# Altium integrated library ST Memory EPROM 16-512 Kbit.IntLib: 933 symbols (part 5 of 19)
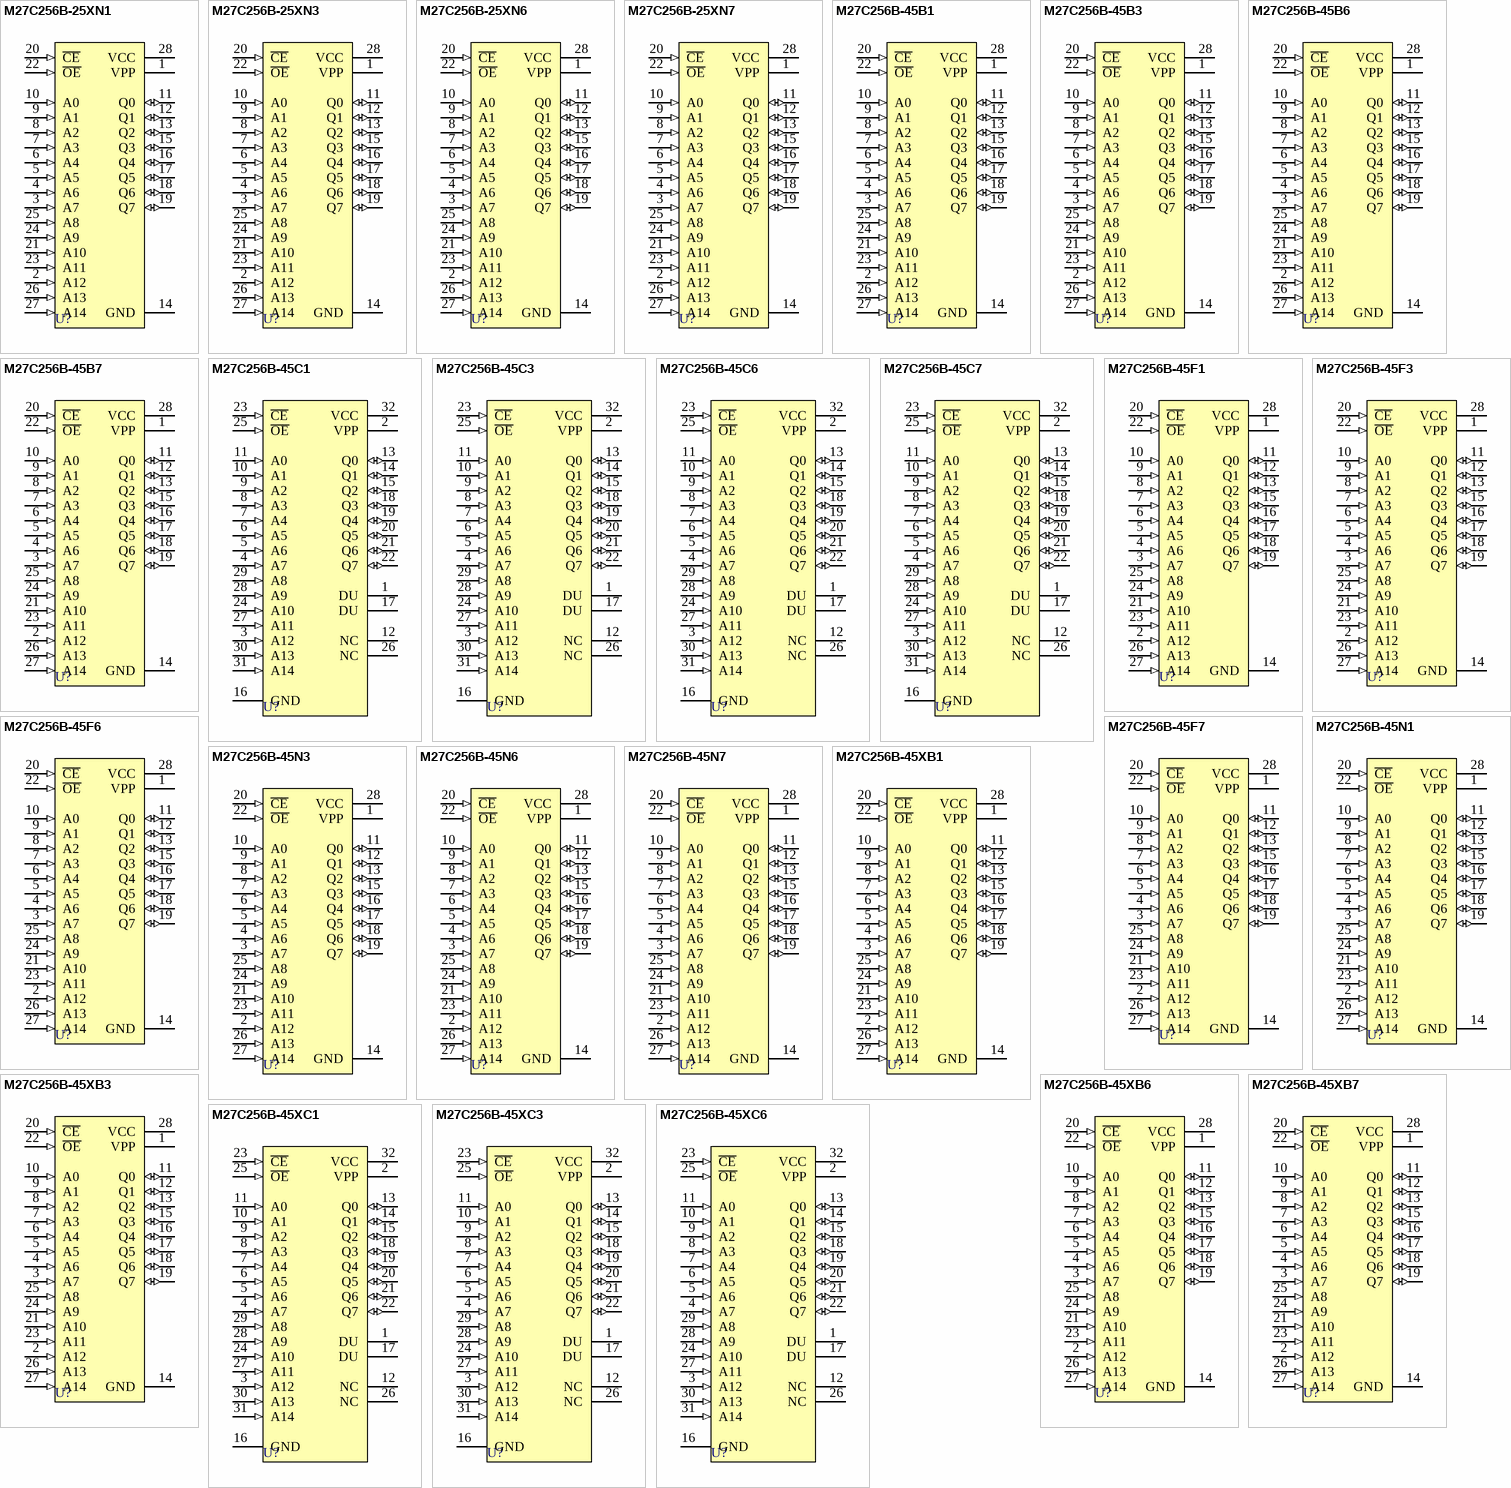
[diagram p38: symbols M27C256B-25XN1 to M27C256B-45XC6]

## M27C256B-45XC3
designator U?
256 Kbit (32Kb X 8) UV EPROM and OTP EPROM; Note: Do Not Use (DU) pin numbers 1 and 17.; Published: 24-Aug-2001; LatestRevisionDate: 6-Jun-2005; LatestRevisionNote: Stylized 3D Model Added.; DatasheetDocument: Jul-1998; PackageDocument: Jun-1998; PackageReference: PLCC32; Publisher: Altium Limited; Code_JEDEC: MS-016-AE; Code_IPC: PLCC/R-32; ComponentLink1Description: Manufacturer Link; ComponentLink1URL: http://www.st.com/; ComponentLink2Description: Datasheet; ComponentLink2URL: http://www.st.com/stonline/products/literature/ds/2384/m27c256b.pdf
footprint PLCC32 (Leaded Chip Carrier; 32 Leads; Body 11.4 x 14 mm)
3D model M27C256B-PLCC32 (Leaded Chip Carrier; 32 Leads; Body 11.4 x 14 mm)
pins: 1 DU, 2 VPP (power), 3 A12 (in), 4 A7 (in), 5 A6 (in), 6 A5 (in), 7 A4 (in), 8 A3 (in), 9 A2 (in), 10 A1 (in), 11 A0 (in), 12 NC, 13 Q0 (io), 14 Q1 (io), 15 Q2 (io), 16 GND (power), 17 DU, 18 Q3 (io), 19 Q4 (io), 20 Q5 (io), 21 Q6 (io), 22 Q7 (io), 23 ~{CE} (in), 24 A10 (in), 25 ~{OE} (in), 26 NC, 27 A11 (in), 28 A9 (in), 29 A8 (in), 30 A13 (in), 31 A14 (in), 32 VCC (power)

## M27C256B-45XC6
designator U?
256 Kbit (32Kb X 8) UV EPROM and OTP EPROM; Note: Do Not Use (DU) pin numbers 1 and 17.; Published: 24-Aug-2001; LatestRevisionDate: 6-Jun-2005; LatestRevisionNote: Stylized 3D Model Added.; DatasheetDocument: Jul-1998; PackageDocument: Jun-1998; PackageReference: PLCC32; Publisher: Altium Limited; Code_JEDEC: MS-016-AE; Code_IPC: PLCC/R-32; ComponentLink1Description: Manufacturer Link; ComponentLink1URL: http://www.st.com/; ComponentLink2Description: Datasheet; ComponentLink2URL: http://www.st.com/stonline/products/literature/ds/2384/m27c256b.pdf
footprint PLCC32 (Leaded Chip Carrier; 32 Leads; Body 11.4 x 14 mm)
3D model M27C256B-PLCC32 (Leaded Chip Carrier; 32 Leads; Body 11.4 x 14 mm)
pins: 1 DU, 2 VPP (power), 3 A12 (in), 4 A7 (in), 5 A6 (in), 6 A5 (in), 7 A4 (in), 8 A3 (in), 9 A2 (in), 10 A1 (in), 11 A0 (in), 12 NC, 13 Q0 (io), 14 Q1 (io), 15 Q2 (io), 16 GND (power), 17 DU, 18 Q3 (io), 19 Q4 (io), 20 Q5 (io), 21 Q6 (io), 22 Q7 (io), 23 ~{CE} (in), 24 A10 (in), 25 ~{OE} (in), 26 NC, 27 A11 (in), 28 A9 (in), 29 A8 (in), 30 A13 (in), 31 A14 (in), 32 VCC (power)

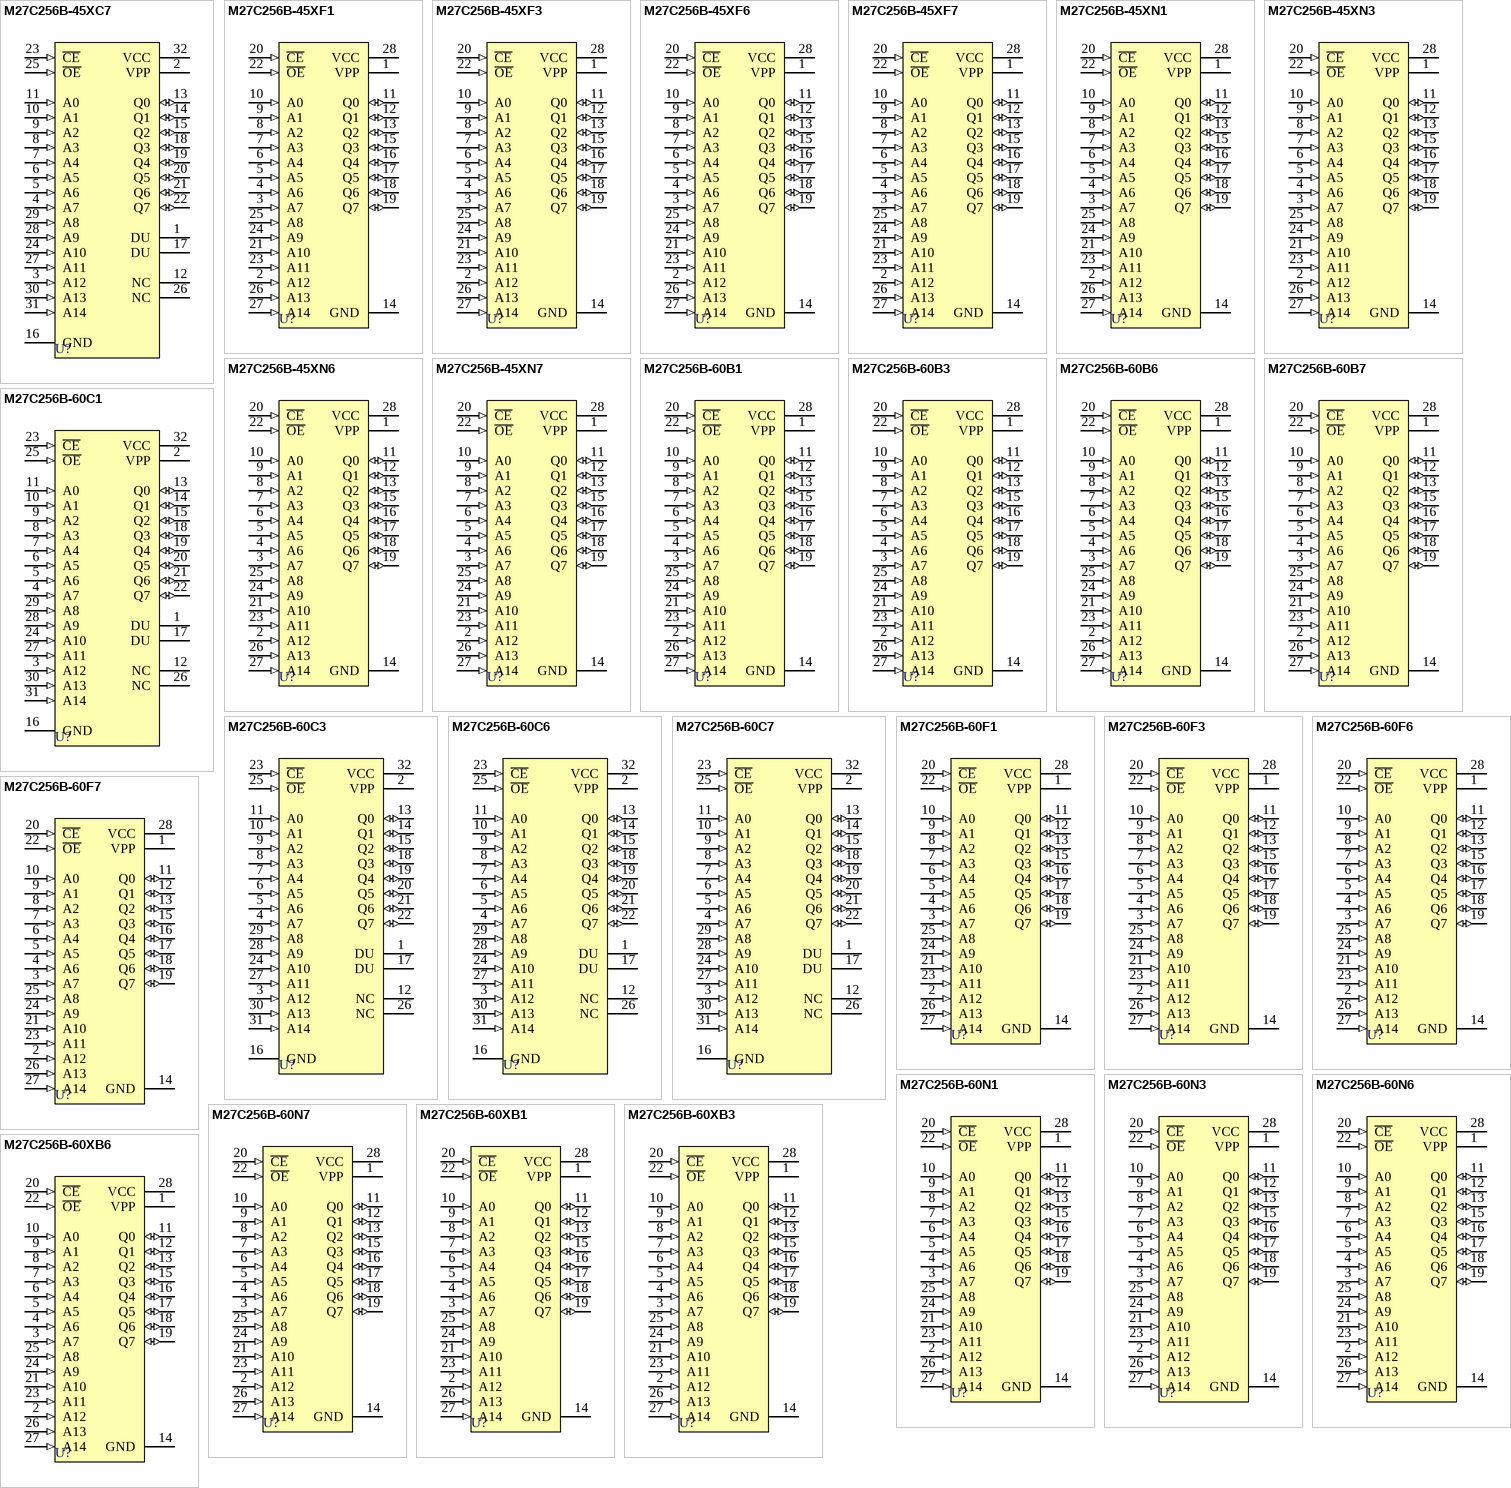
[diagram p7: symbols M27C256B-45XC7 to M27C256B-60XB6]

## M27C256B-45XC7
designator U?
256 Kbit (32Kb X 8) UV EPROM and OTP EPROM; Note: Do Not Use (DU) pin numbers 1 and 17.; Published: 24-Aug-2001; LatestRevisionDate: 6-Jun-2005; LatestRevisionNote: Stylized 3D Model Added.; DatasheetDocument: Jul-1998; PackageDocument: Jun-1998; PackageReference: PLCC32; Publisher: Altium Limited; Code_JEDEC: MS-016-AE; Code_IPC: PLCC/R-32; ComponentLink1Description: Manufacturer Link; ComponentLink1URL: http://www.st.com/; ComponentLink2Description: Datasheet; ComponentLink2URL: http://www.st.com/stonline/products/literature/ds/2384/m27c256b.pdf
footprint PLCC32 (Leaded Chip Carrier; 32 Leads; Body 11.4 x 14 mm)
3D model M27C256B-PLCC32 (Leaded Chip Carrier; 32 Leads; Body 11.4 x 14 mm)
pins: 1 DU, 2 VPP (power), 3 A12 (in), 4 A7 (in), 5 A6 (in), 6 A5 (in), 7 A4 (in), 8 A3 (in), 9 A2 (in), 10 A1 (in), 11 A0 (in), 12 NC, 13 Q0 (io), 14 Q1 (io), 15 Q2 (io), 16 GND (power), 17 DU, 18 Q3 (io), 19 Q4 (io), 20 Q5 (io), 21 Q6 (io), 22 Q7 (io), 23 ~{CE} (in), 24 A10 (in), 25 ~{OE} (in), 26 NC, 27 A11 (in), 28 A9 (in), 29 A8 (in), 30 A13 (in), 31 A14 (in), 32 VCC (power)

## M27C256B-45XF1
designator U?
256 Kbit (32Kb X 8) UV EPROM and OTP EPROM; Published: 24-Aug-2001; LatestRevisionDate: 6-Jun-2005; LatestRevisionNote: Stylized 3D Model Added.; DatasheetDocument: Jul-1998; PackageReference: FDIP28W; Publisher: Altium Limited; ComponentLink1Description: Manufacturer Link; ComponentLink1URL: http://www.st.com/; ComponentLink2Description: Datasheet; ComponentLink2URL: http://www.st.com/stonline/products/literature/ds/2384/m27c256b.pdf
footprint FDIP28W (Ceramic Frit-seal DIP, Window; 28 Leads; Row Spacing 15.24 mm; Pitch 2.54 mm)
3D model FDIP28W (Ceramic Frit-seal DIP, Window; 28 Leads; Row Spacing 15.24 mm; Pitch 2.54 mm)
pins: 1 VPP (power), 2 A12 (in), 3 A7 (in), 4 A6 (in), 5 A5 (in), 6 A4 (in), 7 A3 (in), 8 A2 (in), 9 A1 (in), 10 A0 (in), 11 Q0 (io), 12 Q1 (io), 13 Q2 (io), 14 GND (power), 15 Q3 (io), 16 Q4 (io), 17 Q5 (io), 18 Q6 (io), 19 Q7 (io), 20 ~{CE} (in), 21 A10 (in), 22 ~{OE} (in), 23 A11 (in), 24 A9 (in), 25 A8 (in), 26 A13 (in), 27 A14 (in), 28 VCC (power)

## M27C256B-45XF3
designator U?
256 Kbit (32Kb X 8) UV EPROM and OTP EPROM; Published: 24-Aug-2001; LatestRevisionDate: 6-Jun-2005; LatestRevisionNote: Stylized 3D Model Added.; DatasheetDocument: Jul-1998; PackageReference: FDIP28W; Publisher: Altium Limited; ComponentLink1Description: Manufacturer Link; ComponentLink1URL: http://www.st.com/; ComponentLink2Description: Datasheet; ComponentLink2URL: http://www.st.com/stonline/products/literature/ds/2384/m27c256b.pdf
footprint FDIP28W (Ceramic Frit-seal DIP, Window; 28 Leads; Row Spacing 15.24 mm; Pitch 2.54 mm)
3D model FDIP28W (Ceramic Frit-seal DIP, Window; 28 Leads; Row Spacing 15.24 mm; Pitch 2.54 mm)
pins: 1 VPP (power), 2 A12 (in), 3 A7 (in), 4 A6 (in), 5 A5 (in), 6 A4 (in), 7 A3 (in), 8 A2 (in), 9 A1 (in), 10 A0 (in), 11 Q0 (io), 12 Q1 (io), 13 Q2 (io), 14 GND (power), 15 Q3 (io), 16 Q4 (io), 17 Q5 (io), 18 Q6 (io), 19 Q7 (io), 20 ~{CE} (in), 21 A10 (in), 22 ~{OE} (in), 23 A11 (in), 24 A9 (in), 25 A8 (in), 26 A13 (in), 27 A14 (in), 28 VCC (power)

## M27C256B-45XF6
designator U?
256 Kbit (32Kb X 8) UV EPROM and OTP EPROM; Published: 24-Aug-2001; LatestRevisionDate: 6-Jun-2005; LatestRevisionNote: Stylized 3D Model Added.; DatasheetDocument: Jul-1998; PackageReference: FDIP28W; Publisher: Altium Limited; ComponentLink1Description: Manufacturer Link; ComponentLink1URL: http://www.st.com/; ComponentLink2Description: Datasheet; ComponentLink2URL: http://www.st.com/stonline/products/literature/ds/2384/m27c256b.pdf
footprint FDIP28W (Ceramic Frit-seal DIP, Window; 28 Leads; Row Spacing 15.24 mm; Pitch 2.54 mm)
3D model FDIP28W (Ceramic Frit-seal DIP, Window; 28 Leads; Row Spacing 15.24 mm; Pitch 2.54 mm)
pins: 1 VPP (power), 2 A12 (in), 3 A7 (in), 4 A6 (in), 5 A5 (in), 6 A4 (in), 7 A3 (in), 8 A2 (in), 9 A1 (in), 10 A0 (in), 11 Q0 (io), 12 Q1 (io), 13 Q2 (io), 14 GND (power), 15 Q3 (io), 16 Q4 (io), 17 Q5 (io), 18 Q6 (io), 19 Q7 (io), 20 ~{CE} (in), 21 A10 (in), 22 ~{OE} (in), 23 A11 (in), 24 A9 (in), 25 A8 (in), 26 A13 (in), 27 A14 (in), 28 VCC (power)

## M27C256B-45XF7
designator U?
256 Kbit (32Kb X 8) UV EPROM and OTP EPROM; Published: 24-Aug-2001; LatestRevisionDate: 6-Jun-2005; LatestRevisionNote: Stylized 3D Model Added.; DatasheetDocument: Jul-1998; PackageReference: FDIP28W; Publisher: Altium Limited; ComponentLink1Description: Manufacturer Link; ComponentLink1URL: http://www.st.com/; ComponentLink2Description: Datasheet; ComponentLink2URL: http://www.st.com/stonline/products/literature/ds/2384/m27c256b.pdf
footprint FDIP28W (Ceramic Frit-seal DIP, Window; 28 Leads; Row Spacing 15.24 mm; Pitch 2.54 mm)
3D model FDIP28W (Ceramic Frit-seal DIP, Window; 28 Leads; Row Spacing 15.24 mm; Pitch 2.54 mm)
pins: 1 VPP (power), 2 A12 (in), 3 A7 (in), 4 A6 (in), 5 A5 (in), 6 A4 (in), 7 A3 (in), 8 A2 (in), 9 A1 (in), 10 A0 (in), 11 Q0 (io), 12 Q1 (io), 13 Q2 (io), 14 GND (power), 15 Q3 (io), 16 Q4 (io), 17 Q5 (io), 18 Q6 (io), 19 Q7 (io), 20 ~{CE} (in), 21 A10 (in), 22 ~{OE} (in), 23 A11 (in), 24 A9 (in), 25 A8 (in), 26 A13 (in), 27 A14 (in), 28 VCC (power)

## M27C256B-45XN1
designator U?
256 Kbit (32Kb X 8) UV EPROM and OTP EPROM; Published: 24-Aug-2001; LatestRevisionDate: 6-Jun-2005; LatestRevisionNote: Stylized 3D Model Added.; DatasheetDocument: Jul-1998; PackageDocument: Jul-1998; PackageReference: TSOP28; Publisher: Altium Limited; ComponentLink1Description: Manufacturer Link; ComponentLink1URL: http://www.st.com/; ComponentLink2Description: Datasheet; ComponentLink2URL: http://www.st.com/stonline/products/literature/ds/2384/m27c256b.pdf
footprint TSOP28 (Shrink Small Outline; 28 Leads; Body Width 11.8 mm; Pitch 0.55 mm)
3D model TSOP28 (Shrink Small Outline; 28 Leads; Body Width 11.8 mm; Pitch 0.55 mm)
pins: 1 VPP (power), 2 A12 (in), 3 A7 (in), 4 A6 (in), 5 A5 (in), 6 A4 (in), 7 A3 (in), 8 A2 (in), 9 A1 (in), 10 A0 (in), 11 Q0 (io), 12 Q1 (io), 13 Q2 (io), 14 GND (power), 15 Q3 (io), 16 Q4 (io), 17 Q5 (io), 18 Q6 (io), 19 Q7 (io), 20 ~{CE} (in), 21 A10 (in), 22 ~{OE} (in), 23 A11 (in), 24 A9 (in), 25 A8 (in), 26 A13 (in), 27 A14 (in), 28 VCC (power)

## M27C256B-45XN3
designator U?
256 Kbit (32Kb X 8) UV EPROM and OTP EPROM; Published: 24-Aug-2001; LatestRevisionDate: 6-Jun-2005; LatestRevisionNote: Stylized 3D Model Added.; DatasheetDocument: Jul-1998; PackageDocument: Jul-1998; PackageReference: TSOP28; Publisher: Altium Limited; ComponentLink1Description: Manufacturer Link; ComponentLink1URL: http://www.st.com/; ComponentLink2Description: Datasheet; ComponentLink2URL: http://www.st.com/stonline/products/literature/ds/2384/m27c256b.pdf
footprint TSOP28 (Shrink Small Outline; 28 Leads; Body Width 11.8 mm; Pitch 0.55 mm)
3D model TSOP28 (Shrink Small Outline; 28 Leads; Body Width 11.8 mm; Pitch 0.55 mm)
pins: 1 VPP (power), 2 A12 (in), 3 A7 (in), 4 A6 (in), 5 A5 (in), 6 A4 (in), 7 A3 (in), 8 A2 (in), 9 A1 (in), 10 A0 (in), 11 Q0 (io), 12 Q1 (io), 13 Q2 (io), 14 GND (power), 15 Q3 (io), 16 Q4 (io), 17 Q5 (io), 18 Q6 (io), 19 Q7 (io), 20 ~{CE} (in), 21 A10 (in), 22 ~{OE} (in), 23 A11 (in), 24 A9 (in), 25 A8 (in), 26 A13 (in), 27 A14 (in), 28 VCC (power)

## M27C256B-45XN6
designator U?
256 Kbit (32Kb X 8) UV EPROM and OTP EPROM; Published: 24-Aug-2001; LatestRevisionDate: 6-Jun-2005; LatestRevisionNote: Stylized 3D Model Added.; DatasheetDocument: Jul-1998; PackageDocument: Jul-1998; PackageReference: TSOP28; Publisher: Altium Limited; ComponentLink1Description: Manufacturer Link; ComponentLink1URL: http://www.st.com/; ComponentLink2Description: Datasheet; ComponentLink2URL: http://www.st.com/stonline/products/literature/ds/2384/m27c256b.pdf
footprint TSOP28 (Shrink Small Outline; 28 Leads; Body Width 11.8 mm; Pitch 0.55 mm)
3D model TSOP28 (Shrink Small Outline; 28 Leads; Body Width 11.8 mm; Pitch 0.55 mm)
pins: 1 VPP (power), 2 A12 (in), 3 A7 (in), 4 A6 (in), 5 A5 (in), 6 A4 (in), 7 A3 (in), 8 A2 (in), 9 A1 (in), 10 A0 (in), 11 Q0 (io), 12 Q1 (io), 13 Q2 (io), 14 GND (power), 15 Q3 (io), 16 Q4 (io), 17 Q5 (io), 18 Q6 (io), 19 Q7 (io), 20 ~{CE} (in), 21 A10 (in), 22 ~{OE} (in), 23 A11 (in), 24 A9 (in), 25 A8 (in), 26 A13 (in), 27 A14 (in), 28 VCC (power)

## M27C256B-45XN7
designator U?
256 Kbit (32Kb X 8) UV EPROM and OTP EPROM; Published: 24-Aug-2001; LatestRevisionDate: 6-Jun-2005; LatestRevisionNote: Stylized 3D Model Added.; DatasheetDocument: Jul-1998; PackageDocument: Jul-1998; PackageReference: TSOP28; Publisher: Altium Limited; ComponentLink1Description: Manufacturer Link; ComponentLink1URL: http://www.st.com/; ComponentLink2Description: Datasheet; ComponentLink2URL: http://www.st.com/stonline/products/literature/ds/2384/m27c256b.pdf
footprint TSOP28 (Shrink Small Outline; 28 Leads; Body Width 11.8 mm; Pitch 0.55 mm)
3D model TSOP28 (Shrink Small Outline; 28 Leads; Body Width 11.8 mm; Pitch 0.55 mm)
pins: 1 VPP (power), 2 A12 (in), 3 A7 (in), 4 A6 (in), 5 A5 (in), 6 A4 (in), 7 A3 (in), 8 A2 (in), 9 A1 (in), 10 A0 (in), 11 Q0 (io), 12 Q1 (io), 13 Q2 (io), 14 GND (power), 15 Q3 (io), 16 Q4 (io), 17 Q5 (io), 18 Q6 (io), 19 Q7 (io), 20 ~{CE} (in), 21 A10 (in), 22 ~{OE} (in), 23 A11 (in), 24 A9 (in), 25 A8 (in), 26 A13 (in), 27 A14 (in), 28 VCC (power)

## M27C256B-60B1
designator U?
256 Kbit (32Kb X 8) UV EPROM and OTP EPROM; Published: 24-Aug-2001; LatestRevisionDate: 6-Jun-2005; LatestRevisionNote: Stylized 3D Model Added.; DatasheetDocument: Jul-1998; PackageDocument: Jan-2003; PackageReference: PDIP28; Publisher: Altium Limited; ComponentLink1Description: Manufacturer Link; ComponentLink1URL: http://www.st.com/; ComponentLink2Description: Datasheet; ComponentLink2URL: http://www.st.com/stonline/products/literature/ds/2384/m27c256b.pdf
footprint PDIP28 (DIP; 28 Leads; Row Spacing 15.24 mm; Pitch 2.54 mm)
3D model FDIP28W (DIP; 28 Leads; Row Spacing 15.24 mm; Pitch 2.54 mm)
pins: 1 VPP (power), 2 A12 (in), 3 A7 (in), 4 A6 (in), 5 A5 (in), 6 A4 (in), 7 A3 (in), 8 A2 (in), 9 A1 (in), 10 A0 (in), 11 Q0 (io), 12 Q1 (io), 13 Q2 (io), 14 GND (power), 15 Q3 (io), 16 Q4 (io), 17 Q5 (io), 18 Q6 (io), 19 Q7 (io), 20 ~{CE} (in), 21 A10 (in), 22 ~{OE} (in), 23 A11 (in), 24 A9 (in), 25 A8 (in), 26 A13 (in), 27 A14 (in), 28 VCC (power)

## M27C256B-60B3
designator U?
256 Kbit (32Kb X 8) UV EPROM and OTP EPROM; Published: 24-Aug-2001; LatestRevisionDate: 6-Jun-2005; LatestRevisionNote: Stylized 3D Model Added.; DatasheetDocument: Jul-1998; PackageDocument: Jan-2003; PackageReference: PDIP28; Publisher: Altium Limited; ComponentLink1Description: Manufacturer Link; ComponentLink1URL: http://www.st.com/; ComponentLink2Description: Datasheet; ComponentLink2URL: http://www.st.com/stonline/products/literature/ds/2384/m27c256b.pdf
footprint PDIP28 (DIP; 28 Leads; Row Spacing 15.24 mm; Pitch 2.54 mm)
3D model FDIP28W (DIP; 28 Leads; Row Spacing 15.24 mm; Pitch 2.54 mm)
pins: 1 VPP (power), 2 A12 (in), 3 A7 (in), 4 A6 (in), 5 A5 (in), 6 A4 (in), 7 A3 (in), 8 A2 (in), 9 A1 (in), 10 A0 (in), 11 Q0 (io), 12 Q1 (io), 13 Q2 (io), 14 GND (power), 15 Q3 (io), 16 Q4 (io), 17 Q5 (io), 18 Q6 (io), 19 Q7 (io), 20 ~{CE} (in), 21 A10 (in), 22 ~{OE} (in), 23 A11 (in), 24 A9 (in), 25 A8 (in), 26 A13 (in), 27 A14 (in), 28 VCC (power)

## M27C256B-60B6
designator U?
256 Kbit (32Kb X 8) UV EPROM and OTP EPROM; Published: 24-Aug-2001; LatestRevisionDate: 6-Jun-2005; LatestRevisionNote: Stylized 3D Model Added.; DatasheetDocument: Jul-1998; PackageDocument: Jan-2003; PackageReference: PDIP28; Publisher: Altium Limited; ComponentLink1Description: Manufacturer Link; ComponentLink1URL: http://www.st.com/; ComponentLink2Description: Datasheet; ComponentLink2URL: http://www.st.com/stonline/products/literature/ds/2384/m27c256b.pdf
footprint PDIP28 (DIP; 28 Leads; Row Spacing 15.24 mm; Pitch 2.54 mm)
3D model FDIP28W (DIP; 28 Leads; Row Spacing 15.24 mm; Pitch 2.54 mm)
pins: 1 VPP (power), 2 A12 (in), 3 A7 (in), 4 A6 (in), 5 A5 (in), 6 A4 (in), 7 A3 (in), 8 A2 (in), 9 A1 (in), 10 A0 (in), 11 Q0 (io), 12 Q1 (io), 13 Q2 (io), 14 GND (power), 15 Q3 (io), 16 Q4 (io), 17 Q5 (io), 18 Q6 (io), 19 Q7 (io), 20 ~{CE} (in), 21 A10 (in), 22 ~{OE} (in), 23 A11 (in), 24 A9 (in), 25 A8 (in), 26 A13 (in), 27 A14 (in), 28 VCC (power)

## M27C256B-60B7
designator U?
256 Kbit (32Kb X 8) UV EPROM and OTP EPROM; Published: 24-Aug-2001; LatestRevisionDate: 6-Jun-2005; LatestRevisionNote: Stylized 3D Model Added.; DatasheetDocument: Jul-1998; PackageDocument: Jan-2003; PackageReference: PDIP28; Publisher: Altium Limited; ComponentLink1Description: Manufacturer Link; ComponentLink1URL: http://www.st.com/; ComponentLink2Description: Datasheet; ComponentLink2URL: http://www.st.com/stonline/products/literature/ds/2384/m27c256b.pdf
footprint PDIP28 (DIP; 28 Leads; Row Spacing 15.24 mm; Pitch 2.54 mm)
3D model FDIP28W (DIP; 28 Leads; Row Spacing 15.24 mm; Pitch 2.54 mm)
pins: 1 VPP (power), 2 A12 (in), 3 A7 (in), 4 A6 (in), 5 A5 (in), 6 A4 (in), 7 A3 (in), 8 A2 (in), 9 A1 (in), 10 A0 (in), 11 Q0 (io), 12 Q1 (io), 13 Q2 (io), 14 GND (power), 15 Q3 (io), 16 Q4 (io), 17 Q5 (io), 18 Q6 (io), 19 Q7 (io), 20 ~{CE} (in), 21 A10 (in), 22 ~{OE} (in), 23 A11 (in), 24 A9 (in), 25 A8 (in), 26 A13 (in), 27 A14 (in), 28 VCC (power)

## M27C256B-60C1
designator U?
256 Kbit (32Kb X 8) UV EPROM and OTP EPROM; Note: Do Not Use (DU) pin numbers 1 and 17.; Published: 24-Aug-2001; LatestRevisionDate: 6-Jun-2005; LatestRevisionNote: Stylized 3D Model Added.; DatasheetDocument: Jul-1998; PackageDocument: Jun-1998; PackageReference: PLCC32; Publisher: Altium Limited; Code_JEDEC: MS-016-AE; Code_IPC: PLCC/R-32; ComponentLink1Description: Manufacturer Link; ComponentLink1URL: http://www.st.com/; ComponentLink2Description: Datasheet; ComponentLink2URL: http://www.st.com/stonline/products/literature/ds/2384/m27c256b.pdf
footprint PLCC32 (Leaded Chip Carrier; 32 Leads; Body 11.4 x 14 mm)
3D model M27C256B-PLCC32 (Leaded Chip Carrier; 32 Leads; Body 11.4 x 14 mm)
pins: 1 DU, 2 VPP (power), 3 A12 (in), 4 A7 (in), 5 A6 (in), 6 A5 (in), 7 A4 (in), 8 A3 (in), 9 A2 (in), 10 A1 (in), 11 A0 (in), 12 NC, 13 Q0 (io), 14 Q1 (io), 15 Q2 (io), 16 GND (power), 17 DU, 18 Q3 (io), 19 Q4 (io), 20 Q5 (io), 21 Q6 (io), 22 Q7 (io), 23 ~{CE} (in), 24 A10 (in), 25 ~{OE} (in), 26 NC, 27 A11 (in), 28 A9 (in), 29 A8 (in), 30 A13 (in), 31 A14 (in), 32 VCC (power)

## M27C256B-60C3
designator U?
256 Kbit (32Kb X 8) UV EPROM and OTP EPROM; Note: Do Not Use (DU) pin numbers 1 and 17.; Published: 24-Aug-2001; LatestRevisionDate: 6-Jun-2005; LatestRevisionNote: Stylized 3D Model Added.; DatasheetDocument: Jul-1998; PackageDocument: Jun-1998; PackageReference: PLCC32; Publisher: Altium Limited; Code_JEDEC: MS-016-AE; Code_IPC: PLCC/R-32; ComponentLink1Description: Manufacturer Link; ComponentLink1URL: http://www.st.com/; ComponentLink2Description: Datasheet; ComponentLink2URL: http://www.st.com/stonline/products/literature/ds/2384/m27c256b.pdf
footprint PLCC32 (Leaded Chip Carrier; 32 Leads; Body 11.4 x 14 mm)
3D model M27C256B-PLCC32 (Leaded Chip Carrier; 32 Leads; Body 11.4 x 14 mm)
pins: 1 DU, 2 VPP (power), 3 A12 (in), 4 A7 (in), 5 A6 (in), 6 A5 (in), 7 A4 (in), 8 A3 (in), 9 A2 (in), 10 A1 (in), 11 A0 (in), 12 NC, 13 Q0 (io), 14 Q1 (io), 15 Q2 (io), 16 GND (power), 17 DU, 18 Q3 (io), 19 Q4 (io), 20 Q5 (io), 21 Q6 (io), 22 Q7 (io), 23 ~{CE} (in), 24 A10 (in), 25 ~{OE} (in), 26 NC, 27 A11 (in), 28 A9 (in), 29 A8 (in), 30 A13 (in), 31 A14 (in), 32 VCC (power)

## M27C256B-60C6
designator U?
256 Kbit (32Kb X 8) UV EPROM and OTP EPROM; Note: Do Not Use (DU) pin numbers 1 and 17.; Published: 24-Aug-2001; LatestRevisionDate: 6-Jun-2005; LatestRevisionNote: Stylized 3D Model Added.; DatasheetDocument: Jul-1998; PackageDocument: Jun-1998; PackageReference: PLCC32; Publisher: Altium Limited; Code_JEDEC: MS-016-AE; Code_IPC: PLCC/R-32; ComponentLink1Description: Manufacturer Link; ComponentLink1URL: http://www.st.com/; ComponentLink2Description: Datasheet; ComponentLink2URL: http://www.st.com/stonline/products/literature/ds/2384/m27c256b.pdf
footprint PLCC32 (Leaded Chip Carrier; 32 Leads; Body 11.4 x 14 mm)
3D model M27C256B-PLCC32 (Leaded Chip Carrier; 32 Leads; Body 11.4 x 14 mm)
pins: 1 DU, 2 VPP (power), 3 A12 (in), 4 A7 (in), 5 A6 (in), 6 A5 (in), 7 A4 (in), 8 A3 (in), 9 A2 (in), 10 A1 (in), 11 A0 (in), 12 NC, 13 Q0 (io), 14 Q1 (io), 15 Q2 (io), 16 GND (power), 17 DU, 18 Q3 (io), 19 Q4 (io), 20 Q5 (io), 21 Q6 (io), 22 Q7 (io), 23 ~{CE} (in), 24 A10 (in), 25 ~{OE} (in), 26 NC, 27 A11 (in), 28 A9 (in), 29 A8 (in), 30 A13 (in), 31 A14 (in), 32 VCC (power)

## M27C256B-60C7
designator U?
256 Kbit (32Kb X 8) UV EPROM and OTP EPROM; Note: Do Not Use (DU) pin numbers 1 and 17.; Published: 24-Aug-2001; LatestRevisionDate: 6-Jun-2005; LatestRevisionNote: Stylized 3D Model Added.; DatasheetDocument: Jul-1998; PackageDocument: Jun-1998; PackageReference: PLCC32; Publisher: Altium Limited; Code_JEDEC: MS-016-AE; Code_IPC: PLCC/R-32; ComponentLink1Description: Manufacturer Link; ComponentLink1URL: http://www.st.com/; ComponentLink2Description: Datasheet; ComponentLink2URL: http://www.st.com/stonline/products/literature/ds/2384/m27c256b.pdf
footprint PLCC32 (Leaded Chip Carrier; 32 Leads; Body 11.4 x 14 mm)
3D model M27C256B-PLCC32 (Leaded Chip Carrier; 32 Leads; Body 11.4 x 14 mm)
pins: 1 DU, 2 VPP (power), 3 A12 (in), 4 A7 (in), 5 A6 (in), 6 A5 (in), 7 A4 (in), 8 A3 (in), 9 A2 (in), 10 A1 (in), 11 A0 (in), 12 NC, 13 Q0 (io), 14 Q1 (io), 15 Q2 (io), 16 GND (power), 17 DU, 18 Q3 (io), 19 Q4 (io), 20 Q5 (io), 21 Q6 (io), 22 Q7 (io), 23 ~{CE} (in), 24 A10 (in), 25 ~{OE} (in), 26 NC, 27 A11 (in), 28 A9 (in), 29 A8 (in), 30 A13 (in), 31 A14 (in), 32 VCC (power)

## M27C256B-60F1
designator U?
256 Kbit (32Kb X 8) UV EPROM and OTP EPROM; Published: 24-Aug-2001; LatestRevisionDate: 6-Jun-2005; LatestRevisionNote: Stylized 3D Model Added.; DatasheetDocument: Jul-1998; PackageReference: FDIP28W; Publisher: Altium Limited; ComponentLink1Description: Manufacturer Link; ComponentLink1URL: http://www.st.com/; ComponentLink2Description: Datasheet; ComponentLink2URL: http://www.st.com/stonline/products/literature/ds/2384/m27c256b.pdf
footprint FDIP28W (Ceramic Frit-seal DIP, Window; 28 Leads; Row Spacing 15.24 mm; Pitch 2.54 mm)
3D model FDIP28W (Ceramic Frit-seal DIP, Window; 28 Leads; Row Spacing 15.24 mm; Pitch 2.54 mm)
pins: 1 VPP (power), 2 A12 (in), 3 A7 (in), 4 A6 (in), 5 A5 (in), 6 A4 (in), 7 A3 (in), 8 A2 (in), 9 A1 (in), 10 A0 (in), 11 Q0 (io), 12 Q1 (io), 13 Q2 (io), 14 GND (power), 15 Q3 (io), 16 Q4 (io), 17 Q5 (io), 18 Q6 (io), 19 Q7 (io), 20 ~{CE} (in), 21 A10 (in), 22 ~{OE} (in), 23 A11 (in), 24 A9 (in), 25 A8 (in), 26 A13 (in), 27 A14 (in), 28 VCC (power)

## M27C256B-60F3
designator U?
256 Kbit (32Kb X 8) UV EPROM and OTP EPROM; Published: 24-Aug-2001; LatestRevisionDate: 6-Jun-2005; LatestRevisionNote: Stylized 3D Model Added.; DatasheetDocument: Jul-1998; PackageReference: FDIP28W; Publisher: Altium Limited; ComponentLink1Description: Manufacturer Link; ComponentLink1URL: http://www.st.com/; ComponentLink2Description: Datasheet; ComponentLink2URL: http://www.st.com/stonline/products/literature/ds/2384/m27c256b.pdf
footprint FDIP28W (Ceramic Frit-seal DIP, Window; 28 Leads; Row Spacing 15.24 mm; Pitch 2.54 mm)
3D model FDIP28W (Ceramic Frit-seal DIP, Window; 28 Leads; Row Spacing 15.24 mm; Pitch 2.54 mm)
pins: 1 VPP (power), 2 A12 (in), 3 A7 (in), 4 A6 (in), 5 A5 (in), 6 A4 (in), 7 A3 (in), 8 A2 (in), 9 A1 (in), 10 A0 (in), 11 Q0 (io), 12 Q1 (io), 13 Q2 (io), 14 GND (power), 15 Q3 (io), 16 Q4 (io), 17 Q5 (io), 18 Q6 (io), 19 Q7 (io), 20 ~{CE} (in), 21 A10 (in), 22 ~{OE} (in), 23 A11 (in), 24 A9 (in), 25 A8 (in), 26 A13 (in), 27 A14 (in), 28 VCC (power)

## M27C256B-60F6
designator U?
256 Kbit (32Kb X 8) UV EPROM and OTP EPROM; Published: 24-Aug-2001; LatestRevisionDate: 6-Jun-2005; LatestRevisionNote: Stylized 3D Model Added.; DatasheetDocument: Jul-1998; PackageReference: FDIP28W; Publisher: Altium Limited; ComponentLink1Description: Manufacturer Link; ComponentLink1URL: http://www.st.com/; ComponentLink2Description: Datasheet; ComponentLink2URL: http://www.st.com/stonline/products/literature/ds/2384/m27c256b.pdf
footprint FDIP28W (Ceramic Frit-seal DIP, Window; 28 Leads; Row Spacing 15.24 mm; Pitch 2.54 mm)
3D model FDIP28W (Ceramic Frit-seal DIP, Window; 28 Leads; Row Spacing 15.24 mm; Pitch 2.54 mm)
pins: 1 VPP (power), 2 A12 (in), 3 A7 (in), 4 A6 (in), 5 A5 (in), 6 A4 (in), 7 A3 (in), 8 A2 (in), 9 A1 (in), 10 A0 (in), 11 Q0 (io), 12 Q1 (io), 13 Q2 (io), 14 GND (power), 15 Q3 (io), 16 Q4 (io), 17 Q5 (io), 18 Q6 (io), 19 Q7 (io), 20 ~{CE} (in), 21 A10 (in), 22 ~{OE} (in), 23 A11 (in), 24 A9 (in), 25 A8 (in), 26 A13 (in), 27 A14 (in), 28 VCC (power)

## M27C256B-60F7
designator U?
256 Kbit (32Kb X 8) UV EPROM and OTP EPROM; Published: 24-Aug-2001; LatestRevisionDate: 6-Jun-2005; LatestRevisionNote: Stylized 3D Model Added.; DatasheetDocument: Jul-1998; PackageReference: FDIP28W; Publisher: Altium Limited; ComponentLink1Description: Manufacturer Link; ComponentLink1URL: http://www.st.com/; ComponentLink2Description: Datasheet; ComponentLink2URL: http://www.st.com/stonline/products/literature/ds/2384/m27c256b.pdf
footprint FDIP28W (Ceramic Frit-seal DIP, Window; 28 Leads; Row Spacing 15.24 mm; Pitch 2.54 mm)
3D model FDIP28W (Ceramic Frit-seal DIP, Window; 28 Leads; Row Spacing 15.24 mm; Pitch 2.54 mm)
pins: 1 VPP (power), 2 A12 (in), 3 A7 (in), 4 A6 (in), 5 A5 (in), 6 A4 (in), 7 A3 (in), 8 A2 (in), 9 A1 (in), 10 A0 (in), 11 Q0 (io), 12 Q1 (io), 13 Q2 (io), 14 GND (power), 15 Q3 (io), 16 Q4 (io), 17 Q5 (io), 18 Q6 (io), 19 Q7 (io), 20 ~{CE} (in), 21 A10 (in), 22 ~{OE} (in), 23 A11 (in), 24 A9 (in), 25 A8 (in), 26 A13 (in), 27 A14 (in), 28 VCC (power)

## M27C256B-60N1
designator U?
256 Kbit (32Kb X 8) UV EPROM and OTP EPROM; Published: 24-Aug-2001; LatestRevisionDate: 6-Jun-2005; LatestRevisionNote: Stylized 3D Model Added.; DatasheetDocument: Jul-1998; PackageDocument: Jul-1998; PackageReference: TSOP28; Publisher: Altium Limited; ComponentLink1Description: Manufacturer Link; ComponentLink1URL: http://www.st.com/; ComponentLink2Description: Datasheet; ComponentLink2URL: http://www.st.com/stonline/products/literature/ds/2384/m27c256b.pdf
footprint TSOP28 (Shrink Small Outline; 28 Leads; Body Width 11.8 mm; Pitch 0.55 mm)
3D model TSOP28 (Shrink Small Outline; 28 Leads; Body Width 11.8 mm; Pitch 0.55 mm)
pins: 1 VPP (power), 2 A12 (in), 3 A7 (in), 4 A6 (in), 5 A5 (in), 6 A4 (in), 7 A3 (in), 8 A2 (in), 9 A1 (in), 10 A0 (in), 11 Q0 (io), 12 Q1 (io), 13 Q2 (io), 14 GND (power), 15 Q3 (io), 16 Q4 (io), 17 Q5 (io), 18 Q6 (io), 19 Q7 (io), 20 ~{CE} (in), 21 A10 (in), 22 ~{OE} (in), 23 A11 (in), 24 A9 (in), 25 A8 (in), 26 A13 (in), 27 A14 (in), 28 VCC (power)

## M27C256B-60N3
designator U?
256 Kbit (32Kb X 8) UV EPROM and OTP EPROM; Published: 24-Aug-2001; LatestRevisionDate: 6-Jun-2005; LatestRevisionNote: Stylized 3D Model Added.; DatasheetDocument: Jul-1998; PackageDocument: Jul-1998; PackageReference: TSOP28; Publisher: Altium Limited; ComponentLink1Description: Manufacturer Link; ComponentLink1URL: http://www.st.com/; ComponentLink2Description: Datasheet; ComponentLink2URL: http://www.st.com/stonline/products/literature/ds/2384/m27c256b.pdf
footprint TSOP28 (Shrink Small Outline; 28 Leads; Body Width 11.8 mm; Pitch 0.55 mm)
3D model TSOP28 (Shrink Small Outline; 28 Leads; Body Width 11.8 mm; Pitch 0.55 mm)
pins: 1 VPP (power), 2 A12 (in), 3 A7 (in), 4 A6 (in), 5 A5 (in), 6 A4 (in), 7 A3 (in), 8 A2 (in), 9 A1 (in), 10 A0 (in), 11 Q0 (io), 12 Q1 (io), 13 Q2 (io), 14 GND (power), 15 Q3 (io), 16 Q4 (io), 17 Q5 (io), 18 Q6 (io), 19 Q7 (io), 20 ~{CE} (in), 21 A10 (in), 22 ~{OE} (in), 23 A11 (in), 24 A9 (in), 25 A8 (in), 26 A13 (in), 27 A14 (in), 28 VCC (power)

## M27C256B-60N6
designator U?
256 Kbit (32Kb X 8) UV EPROM and OTP EPROM; Published: 24-Aug-2001; LatestRevisionDate: 6-Jun-2005; LatestRevisionNote: Stylized 3D Model Added.; DatasheetDocument: Jul-1998; PackageDocument: Jul-1998; PackageReference: TSOP28; Publisher: Altium Limited; ComponentLink1Description: Manufacturer Link; ComponentLink1URL: http://www.st.com/; ComponentLink2Description: Datasheet; ComponentLink2URL: http://www.st.com/stonline/products/literature/ds/2384/m27c256b.pdf
footprint TSOP28 (Shrink Small Outline; 28 Leads; Body Width 11.8 mm; Pitch 0.55 mm)
3D model TSOP28 (Shrink Small Outline; 28 Leads; Body Width 11.8 mm; Pitch 0.55 mm)
pins: 1 VPP (power), 2 A12 (in), 3 A7 (in), 4 A6 (in), 5 A5 (in), 6 A4 (in), 7 A3 (in), 8 A2 (in), 9 A1 (in), 10 A0 (in), 11 Q0 (io), 12 Q1 (io), 13 Q2 (io), 14 GND (power), 15 Q3 (io), 16 Q4 (io), 17 Q5 (io), 18 Q6 (io), 19 Q7 (io), 20 ~{CE} (in), 21 A10 (in), 22 ~{OE} (in), 23 A11 (in), 24 A9 (in), 25 A8 (in), 26 A13 (in), 27 A14 (in), 28 VCC (power)

## M27C256B-60N7
designator U?
256 Kbit (32Kb X 8) UV EPROM and OTP EPROM; Published: 24-Aug-2001; LatestRevisionDate: 6-Jun-2005; LatestRevisionNote: Stylized 3D Model Added.; DatasheetDocument: Jul-1998; PackageDocument: Jul-1998; PackageReference: TSOP28; Publisher: Altium Limited; ComponentLink1Description: Manufacturer Link; ComponentLink1URL: http://www.st.com/; ComponentLink2Description: Datasheet; ComponentLink2URL: http://www.st.com/stonline/products/literature/ds/2384/m27c256b.pdf
footprint TSOP28 (Shrink Small Outline; 28 Leads; Body Width 11.8 mm; Pitch 0.55 mm)
3D model TSOP28 (Shrink Small Outline; 28 Leads; Body Width 11.8 mm; Pitch 0.55 mm)
pins: 1 VPP (power), 2 A12 (in), 3 A7 (in), 4 A6 (in), 5 A5 (in), 6 A4 (in), 7 A3 (in), 8 A2 (in), 9 A1 (in), 10 A0 (in), 11 Q0 (io), 12 Q1 (io), 13 Q2 (io), 14 GND (power), 15 Q3 (io), 16 Q4 (io), 17 Q5 (io), 18 Q6 (io), 19 Q7 (io), 20 ~{CE} (in), 21 A10 (in), 22 ~{OE} (in), 23 A11 (in), 24 A9 (in), 25 A8 (in), 26 A13 (in), 27 A14 (in), 28 VCC (power)

## M27C256B-60XB1
designator U?
256 Kbit (32Kb X 8) UV EPROM and OTP EPROM; Published: 24-Aug-2001; LatestRevisionDate: 6-Jun-2005; LatestRevisionNote: Stylized 3D Model Added.; DatasheetDocument: Jul-1998; PackageDocument: Jan-2003; PackageReference: PDIP28; Publisher: Altium Limited; ComponentLink1Description: Manufacturer Link; ComponentLink1URL: http://www.st.com/; ComponentLink2Description: Datasheet; ComponentLink2URL: http://www.st.com/stonline/products/literature/ds/2384/m27c256b.pdf
footprint PDIP28 (DIP; 28 Leads; Row Spacing 15.24 mm; Pitch 2.54 mm)
3D model FDIP28W (DIP; 28 Leads; Row Spacing 15.24 mm; Pitch 2.54 mm)
pins: 1 VPP (power), 2 A12 (in), 3 A7 (in), 4 A6 (in), 5 A5 (in), 6 A4 (in), 7 A3 (in), 8 A2 (in), 9 A1 (in), 10 A0 (in), 11 Q0 (io), 12 Q1 (io), 13 Q2 (io), 14 GND (power), 15 Q3 (io), 16 Q4 (io), 17 Q5 (io), 18 Q6 (io), 19 Q7 (io), 20 ~{CE} (in), 21 A10 (in), 22 ~{OE} (in), 23 A11 (in), 24 A9 (in), 25 A8 (in), 26 A13 (in), 27 A14 (in), 28 VCC (power)

## M27C256B-60XB3
designator U?
256 Kbit (32Kb X 8) UV EPROM and OTP EPROM; Published: 24-Aug-2001; LatestRevisionDate: 6-Jun-2005; LatestRevisionNote: Stylized 3D Model Added.; DatasheetDocument: Jul-1998; PackageDocument: Jan-2003; PackageReference: PDIP28; Publisher: Altium Limited; ComponentLink1Description: Manufacturer Link; ComponentLink1URL: http://www.st.com/; ComponentLink2Description: Datasheet; ComponentLink2URL: http://www.st.com/stonline/products/literature/ds/2384/m27c256b.pdf
footprint PDIP28 (DIP; 28 Leads; Row Spacing 15.24 mm; Pitch 2.54 mm)
3D model FDIP28W (DIP; 28 Leads; Row Spacing 15.24 mm; Pitch 2.54 mm)
pins: 1 VPP (power), 2 A12 (in), 3 A7 (in), 4 A6 (in), 5 A5 (in), 6 A4 (in), 7 A3 (in), 8 A2 (in), 9 A1 (in), 10 A0 (in), 11 Q0 (io), 12 Q1 (io), 13 Q2 (io), 14 GND (power), 15 Q3 (io), 16 Q4 (io), 17 Q5 (io), 18 Q6 (io), 19 Q7 (io), 20 ~{CE} (in), 21 A10 (in), 22 ~{OE} (in), 23 A11 (in), 24 A9 (in), 25 A8 (in), 26 A13 (in), 27 A14 (in), 28 VCC (power)

## M27C256B-60XB6
designator U?
256 Kbit (32Kb X 8) UV EPROM and OTP EPROM; Published: 24-Aug-2001; LatestRevisionDate: 6-Jun-2005; LatestRevisionNote: Stylized 3D Model Added.; DatasheetDocument: Jul-1998; PackageDocument: Jan-2003; PackageReference: PDIP28; Publisher: Altium Limited; ComponentLink1Description: Manufacturer Link; ComponentLink1URL: http://www.st.com/; ComponentLink2Description: Datasheet; ComponentLink2URL: http://www.st.com/stonline/products/literature/ds/2384/m27c256b.pdf
footprint PDIP28 (DIP; 28 Leads; Row Spacing 15.24 mm; Pitch 2.54 mm)
3D model FDIP28W (DIP; 28 Leads; Row Spacing 15.24 mm; Pitch 2.54 mm)
pins: 1 VPP (power), 2 A12 (in), 3 A7 (in), 4 A6 (in), 5 A5 (in), 6 A4 (in), 7 A3 (in), 8 A2 (in), 9 A1 (in), 10 A0 (in), 11 Q0 (io), 12 Q1 (io), 13 Q2 (io), 14 GND (power), 15 Q3 (io), 16 Q4 (io), 17 Q5 (io), 18 Q6 (io), 19 Q7 (io), 20 ~{CE} (in), 21 A10 (in), 22 ~{OE} (in), 23 A11 (in), 24 A9 (in), 25 A8 (in), 26 A13 (in), 27 A14 (in), 28 VCC (power)

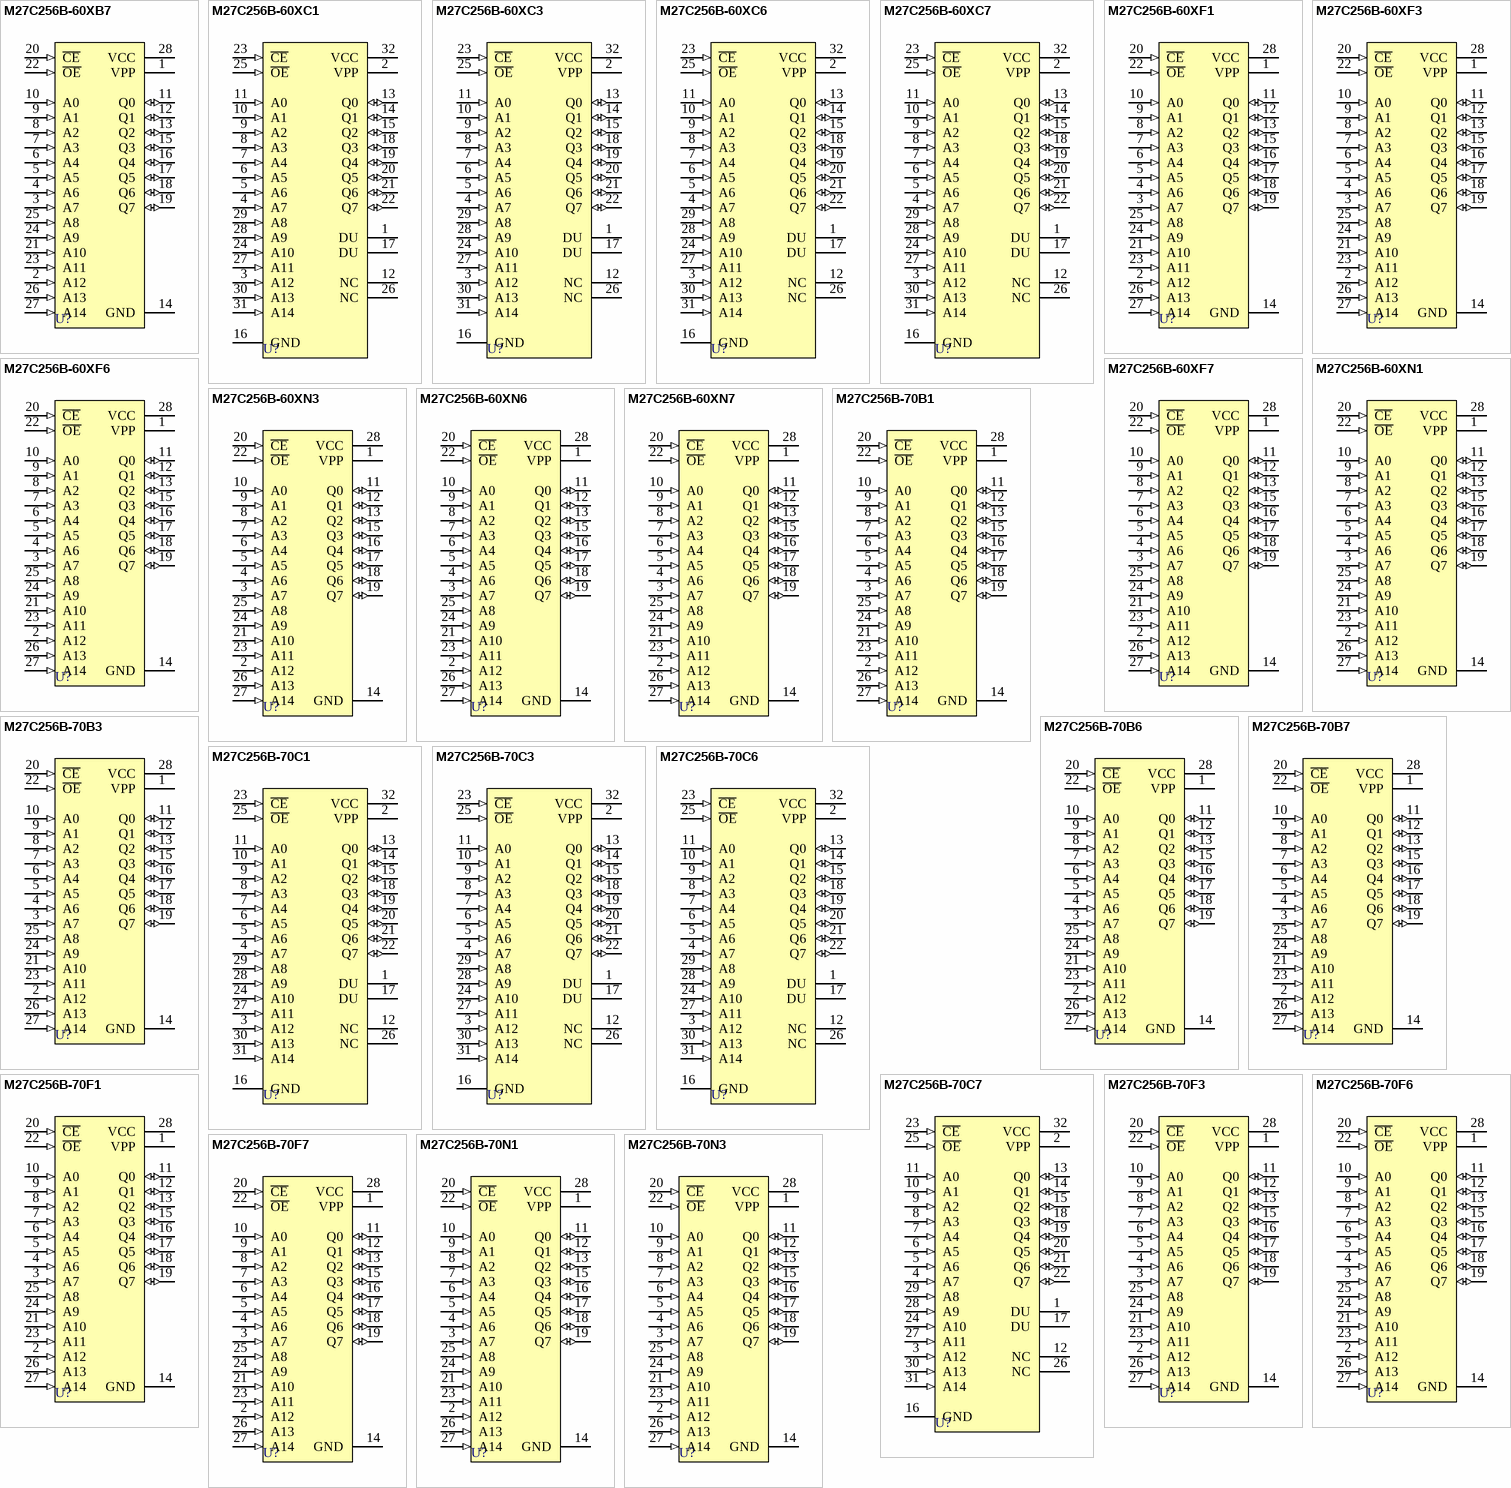
[diagram p8: symbols M27C256B-60XB7 to M27C256B-70N3]

## M27C256B-60XB7
designator U?
256 Kbit (32Kb X 8) UV EPROM and OTP EPROM; Published: 24-Aug-2001; LatestRevisionDate: 6-Jun-2005; LatestRevisionNote: Stylized 3D Model Added.; DatasheetDocument: Jul-1998; PackageDocument: Jan-2003; PackageReference: PDIP28; Publisher: Altium Limited; ComponentLink1Description: Manufacturer Link; ComponentLink1URL: http://www.st.com/; ComponentLink2Description: Datasheet; ComponentLink2URL: http://www.st.com/stonline/products/literature/ds/2384/m27c256b.pdf
footprint PDIP28 (DIP; 28 Leads; Row Spacing 15.24 mm; Pitch 2.54 mm)
3D model FDIP28W (DIP; 28 Leads; Row Spacing 15.24 mm; Pitch 2.54 mm)
pins: 1 VPP (power), 2 A12 (in), 3 A7 (in), 4 A6 (in), 5 A5 (in), 6 A4 (in), 7 A3 (in), 8 A2 (in), 9 A1 (in), 10 A0 (in), 11 Q0 (io), 12 Q1 (io), 13 Q2 (io), 14 GND (power), 15 Q3 (io), 16 Q4 (io), 17 Q5 (io), 18 Q6 (io), 19 Q7 (io), 20 ~{CE} (in), 21 A10 (in), 22 ~{OE} (in), 23 A11 (in), 24 A9 (in), 25 A8 (in), 26 A13 (in), 27 A14 (in), 28 VCC (power)

## M27C256B-60XC1
designator U?
256 Kbit (32Kb X 8) UV EPROM and OTP EPROM; Note: Do Not Use (DU) pin numbers 1 and 17.; Published: 24-Aug-2001; LatestRevisionDate: 6-Jun-2005; LatestRevisionNote: Stylized 3D Model Added.; DatasheetDocument: Jul-1998; PackageDocument: Jun-1998; PackageReference: PLCC32; Publisher: Altium Limited; Code_JEDEC: MS-016-AE; Code_IPC: PLCC/R-32; ComponentLink1Description: Manufacturer Link; ComponentLink1URL: http://www.st.com/; ComponentLink2Description: Datasheet; ComponentLink2URL: http://www.st.com/stonline/products/literature/ds/2384/m27c256b.pdf
footprint PLCC32 (Leaded Chip Carrier; 32 Leads; Body 11.4 x 14 mm)
3D model M27C256B-PLCC32 (Leaded Chip Carrier; 32 Leads; Body 11.4 x 14 mm)
pins: 1 DU, 2 VPP (power), 3 A12 (in), 4 A7 (in), 5 A6 (in), 6 A5 (in), 7 A4 (in), 8 A3 (in), 9 A2 (in), 10 A1 (in), 11 A0 (in), 12 NC, 13 Q0 (io), 14 Q1 (io), 15 Q2 (io), 16 GND (power), 17 DU, 18 Q3 (io), 19 Q4 (io), 20 Q5 (io), 21 Q6 (io), 22 Q7 (io), 23 ~{CE} (in), 24 A10 (in), 25 ~{OE} (in), 26 NC, 27 A11 (in), 28 A9 (in), 29 A8 (in), 30 A13 (in), 31 A14 (in), 32 VCC (power)

## M27C256B-60XC3
designator U?
256 Kbit (32Kb X 8) UV EPROM and OTP EPROM; Note: Do Not Use (DU) pin numbers 1 and 17.; Published: 24-Aug-2001; LatestRevisionDate: 6-Jun-2005; LatestRevisionNote: Stylized 3D Model Added.; DatasheetDocument: Jul-1998; PackageDocument: Jun-1998; PackageReference: PLCC32; Publisher: Altium Limited; Code_JEDEC: MS-016-AE; Code_IPC: PLCC/R-32; ComponentLink1Description: Manufacturer Link; ComponentLink1URL: http://www.st.com/; ComponentLink2Description: Datasheet; ComponentLink2URL: http://www.st.com/stonline/products/literature/ds/2384/m27c256b.pdf
footprint PLCC32 (Leaded Chip Carrier; 32 Leads; Body 11.4 x 14 mm)
3D model M27C256B-PLCC32 (Leaded Chip Carrier; 32 Leads; Body 11.4 x 14 mm)
pins: 1 DU, 2 VPP (power), 3 A12 (in), 4 A7 (in), 5 A6 (in), 6 A5 (in), 7 A4 (in), 8 A3 (in), 9 A2 (in), 10 A1 (in), 11 A0 (in), 12 NC, 13 Q0 (io), 14 Q1 (io), 15 Q2 (io), 16 GND (power), 17 DU, 18 Q3 (io), 19 Q4 (io), 20 Q5 (io), 21 Q6 (io), 22 Q7 (io), 23 ~{CE} (in), 24 A10 (in), 25 ~{OE} (in), 26 NC, 27 A11 (in), 28 A9 (in), 29 A8 (in), 30 A13 (in), 31 A14 (in), 32 VCC (power)

## M27C256B-60XC6
designator U?
256 Kbit (32Kb X 8) UV EPROM and OTP EPROM; Note: Do Not Use (DU) pin numbers 1 and 17.; Published: 24-Aug-2001; LatestRevisionDate: 6-Jun-2005; LatestRevisionNote: Stylized 3D Model Added.; DatasheetDocument: Jul-1998; PackageDocument: Jun-1998; PackageReference: PLCC32; Publisher: Altium Limited; Code_JEDEC: MS-016-AE; Code_IPC: PLCC/R-32; ComponentLink1Description: Manufacturer Link; ComponentLink1URL: http://www.st.com/; ComponentLink2Description: Datasheet; ComponentLink2URL: http://www.st.com/stonline/products/literature/ds/2384/m27c256b.pdf
footprint PLCC32 (Leaded Chip Carrier; 32 Leads; Body 11.4 x 14 mm)
3D model M27C256B-PLCC32 (Leaded Chip Carrier; 32 Leads; Body 11.4 x 14 mm)
pins: 1 DU, 2 VPP (power), 3 A12 (in), 4 A7 (in), 5 A6 (in), 6 A5 (in), 7 A4 (in), 8 A3 (in), 9 A2 (in), 10 A1 (in), 11 A0 (in), 12 NC, 13 Q0 (io), 14 Q1 (io), 15 Q2 (io), 16 GND (power), 17 DU, 18 Q3 (io), 19 Q4 (io), 20 Q5 (io), 21 Q6 (io), 22 Q7 (io), 23 ~{CE} (in), 24 A10 (in), 25 ~{OE} (in), 26 NC, 27 A11 (in), 28 A9 (in), 29 A8 (in), 30 A13 (in), 31 A14 (in), 32 VCC (power)

## M27C256B-60XC7
designator U?
256 Kbit (32Kb X 8) UV EPROM and OTP EPROM; Note: Do Not Use (DU) pin numbers 1 and 17.; Published: 24-Aug-2001; LatestRevisionDate: 6-Jun-2005; LatestRevisionNote: Stylized 3D Model Added.; DatasheetDocument: Jul-1998; PackageDocument: Jun-1998; PackageReference: PLCC32; Publisher: Altium Limited; Code_JEDEC: MS-016-AE; Code_IPC: PLCC/R-32; ComponentLink1Description: Manufacturer Link; ComponentLink1URL: http://www.st.com/; ComponentLink2Description: Datasheet; ComponentLink2URL: http://www.st.com/stonline/products/literature/ds/2384/m27c256b.pdf
footprint PLCC32 (Leaded Chip Carrier; 32 Leads; Body 11.4 x 14 mm)
3D model M27C256B-PLCC32 (Leaded Chip Carrier; 32 Leads; Body 11.4 x 14 mm)
pins: 1 DU, 2 VPP (power), 3 A12 (in), 4 A7 (in), 5 A6 (in), 6 A5 (in), 7 A4 (in), 8 A3 (in), 9 A2 (in), 10 A1 (in), 11 A0 (in), 12 NC, 13 Q0 (io), 14 Q1 (io), 15 Q2 (io), 16 GND (power), 17 DU, 18 Q3 (io), 19 Q4 (io), 20 Q5 (io), 21 Q6 (io), 22 Q7 (io), 23 ~{CE} (in), 24 A10 (in), 25 ~{OE} (in), 26 NC, 27 A11 (in), 28 A9 (in), 29 A8 (in), 30 A13 (in), 31 A14 (in), 32 VCC (power)

## M27C256B-60XF1
designator U?
256 Kbit (32Kb X 8) UV EPROM and OTP EPROM; Published: 24-Aug-2001; LatestRevisionDate: 6-Jun-2005; LatestRevisionNote: Stylized 3D Model Added.; DatasheetDocument: Jul-1998; PackageReference: FDIP28W; Publisher: Altium Limited; ComponentLink1Description: Manufacturer Link; ComponentLink1URL: http://www.st.com/; ComponentLink2Description: Datasheet; ComponentLink2URL: http://www.st.com/stonline/products/literature/ds/2384/m27c256b.pdf
footprint FDIP28W (Ceramic Frit-seal DIP, Window; 28 Leads; Row Spacing 15.24 mm; Pitch 2.54 mm)
3D model FDIP28W (Ceramic Frit-seal DIP, Window; 28 Leads; Row Spacing 15.24 mm; Pitch 2.54 mm)
pins: 1 VPP (power), 2 A12 (in), 3 A7 (in), 4 A6 (in), 5 A5 (in), 6 A4 (in), 7 A3 (in), 8 A2 (in), 9 A1 (in), 10 A0 (in), 11 Q0 (io), 12 Q1 (io), 13 Q2 (io), 14 GND (power), 15 Q3 (io), 16 Q4 (io), 17 Q5 (io), 18 Q6 (io), 19 Q7 (io), 20 ~{CE} (in), 21 A10 (in), 22 ~{OE} (in), 23 A11 (in), 24 A9 (in), 25 A8 (in), 26 A13 (in), 27 A14 (in), 28 VCC (power)

## M27C256B-60XF3
designator U?
256 Kbit (32Kb X 8) UV EPROM and OTP EPROM; Published: 24-Aug-2001; LatestRevisionDate: 6-Jun-2005; LatestRevisionNote: Stylized 3D Model Added.; DatasheetDocument: Jul-1998; PackageReference: FDIP28W; Publisher: Altium Limited; ComponentLink1Description: Manufacturer Link; ComponentLink1URL: http://www.st.com/; ComponentLink2Description: Datasheet; ComponentLink2URL: http://www.st.com/stonline/products/literature/ds/2384/m27c256b.pdf
footprint FDIP28W (Ceramic Frit-seal DIP, Window; 28 Leads; Row Spacing 15.24 mm; Pitch 2.54 mm)
3D model FDIP28W (Ceramic Frit-seal DIP, Window; 28 Leads; Row Spacing 15.24 mm; Pitch 2.54 mm)
pins: 1 VPP (power), 2 A12 (in), 3 A7 (in), 4 A6 (in), 5 A5 (in), 6 A4 (in), 7 A3 (in), 8 A2 (in), 9 A1 (in), 10 A0 (in), 11 Q0 (io), 12 Q1 (io), 13 Q2 (io), 14 GND (power), 15 Q3 (io), 16 Q4 (io), 17 Q5 (io), 18 Q6 (io), 19 Q7 (io), 20 ~{CE} (in), 21 A10 (in), 22 ~{OE} (in), 23 A11 (in), 24 A9 (in), 25 A8 (in), 26 A13 (in), 27 A14 (in), 28 VCC (power)

## M27C256B-60XF6
designator U?
256 Kbit (32Kb X 8) UV EPROM and OTP EPROM; Published: 24-Aug-2001; LatestRevisionDate: 6-Jun-2005; LatestRevisionNote: Stylized 3D Model Added.; DatasheetDocument: Jul-1998; PackageReference: FDIP28W; Publisher: Altium Limited; ComponentLink1Description: Manufacturer Link; ComponentLink1URL: http://www.st.com/; ComponentLink2Description: Datasheet; ComponentLink2URL: http://www.st.com/stonline/products/literature/ds/2384/m27c256b.pdf
footprint FDIP28W (Ceramic Frit-seal DIP, Window; 28 Leads; Row Spacing 15.24 mm; Pitch 2.54 mm)
3D model FDIP28W (Ceramic Frit-seal DIP, Window; 28 Leads; Row Spacing 15.24 mm; Pitch 2.54 mm)
pins: 1 VPP (power), 2 A12 (in), 3 A7 (in), 4 A6 (in), 5 A5 (in), 6 A4 (in), 7 A3 (in), 8 A2 (in), 9 A1 (in), 10 A0 (in), 11 Q0 (io), 12 Q1 (io), 13 Q2 (io), 14 GND (power), 15 Q3 (io), 16 Q4 (io), 17 Q5 (io), 18 Q6 (io), 19 Q7 (io), 20 ~{CE} (in), 21 A10 (in), 22 ~{OE} (in), 23 A11 (in), 24 A9 (in), 25 A8 (in), 26 A13 (in), 27 A14 (in), 28 VCC (power)

## M27C256B-60XF7
designator U?
256 Kbit (32Kb X 8) UV EPROM and OTP EPROM; Published: 24-Aug-2001; LatestRevisionDate: 6-Jun-2005; LatestRevisionNote: Stylized 3D Model Added.; DatasheetDocument: Jul-1998; PackageReference: FDIP28W; Publisher: Altium Limited; ComponentLink1Description: Manufacturer Link; ComponentLink1URL: http://www.st.com/; ComponentLink2Description: Datasheet; ComponentLink2URL: http://www.st.com/stonline/products/literature/ds/2384/m27c256b.pdf
footprint FDIP28W (Ceramic Frit-seal DIP, Window; 28 Leads; Row Spacing 15.24 mm; Pitch 2.54 mm)
3D model FDIP28W (Ceramic Frit-seal DIP, Window; 28 Leads; Row Spacing 15.24 mm; Pitch 2.54 mm)
pins: 1 VPP (power), 2 A12 (in), 3 A7 (in), 4 A6 (in), 5 A5 (in), 6 A4 (in), 7 A3 (in), 8 A2 (in), 9 A1 (in), 10 A0 (in), 11 Q0 (io), 12 Q1 (io), 13 Q2 (io), 14 GND (power), 15 Q3 (io), 16 Q4 (io), 17 Q5 (io), 18 Q6 (io), 19 Q7 (io), 20 ~{CE} (in), 21 A10 (in), 22 ~{OE} (in), 23 A11 (in), 24 A9 (in), 25 A8 (in), 26 A13 (in), 27 A14 (in), 28 VCC (power)

## M27C256B-60XN1
designator U?
256 Kbit (32Kb X 8) UV EPROM and OTP EPROM; Published: 24-Aug-2001; LatestRevisionDate: 6-Jun-2005; LatestRevisionNote: Stylized 3D Model Added.; DatasheetDocument: Jul-1998; PackageDocument: Jul-1998; PackageReference: TSOP28; Publisher: Altium Limited; ComponentLink1Description: Manufacturer Link; ComponentLink1URL: http://www.st.com/; ComponentLink2Description: Datasheet; ComponentLink2URL: http://www.st.com/stonline/products/literature/ds/2384/m27c256b.pdf
footprint TSOP28 (Shrink Small Outline; 28 Leads; Body Width 11.8 mm; Pitch 0.55 mm)
3D model TSOP28 (Shrink Small Outline; 28 Leads; Body Width 11.8 mm; Pitch 0.55 mm)
pins: 1 VPP (power), 2 A12 (in), 3 A7 (in), 4 A6 (in), 5 A5 (in), 6 A4 (in), 7 A3 (in), 8 A2 (in), 9 A1 (in), 10 A0 (in), 11 Q0 (io), 12 Q1 (io), 13 Q2 (io), 14 GND (power), 15 Q3 (io), 16 Q4 (io), 17 Q5 (io), 18 Q6 (io), 19 Q7 (io), 20 ~{CE} (in), 21 A10 (in), 22 ~{OE} (in), 23 A11 (in), 24 A9 (in), 25 A8 (in), 26 A13 (in), 27 A14 (in), 28 VCC (power)

## M27C256B-60XN3
designator U?
256 Kbit (32Kb X 8) UV EPROM and OTP EPROM; Published: 24-Aug-2001; LatestRevisionDate: 6-Jun-2005; LatestRevisionNote: Stylized 3D Model Added.; DatasheetDocument: Jul-1998; PackageDocument: Jul-1998; PackageReference: TSOP28; Publisher: Altium Limited; ComponentLink1Description: Manufacturer Link; ComponentLink1URL: http://www.st.com/; ComponentLink2Description: Datasheet; ComponentLink2URL: http://www.st.com/stonline/products/literature/ds/2384/m27c256b.pdf
footprint TSOP28 (Shrink Small Outline; 28 Leads; Body Width 11.8 mm; Pitch 0.55 mm)
3D model TSOP28 (Shrink Small Outline; 28 Leads; Body Width 11.8 mm; Pitch 0.55 mm)
pins: 1 VPP (power), 2 A12 (in), 3 A7 (in), 4 A6 (in), 5 A5 (in), 6 A4 (in), 7 A3 (in), 8 A2 (in), 9 A1 (in), 10 A0 (in), 11 Q0 (io), 12 Q1 (io), 13 Q2 (io), 14 GND (power), 15 Q3 (io), 16 Q4 (io), 17 Q5 (io), 18 Q6 (io), 19 Q7 (io), 20 ~{CE} (in), 21 A10 (in), 22 ~{OE} (in), 23 A11 (in), 24 A9 (in), 25 A8 (in), 26 A13 (in), 27 A14 (in), 28 VCC (power)

## M27C256B-60XN6
designator U?
256 Kbit (32Kb X 8) UV EPROM and OTP EPROM; Published: 24-Aug-2001; LatestRevisionDate: 6-Jun-2005; LatestRevisionNote: Stylized 3D Model Added.; DatasheetDocument: Jul-1998; PackageDocument: Jul-1998; PackageReference: TSOP28; Publisher: Altium Limited; ComponentLink1Description: Manufacturer Link; ComponentLink1URL: http://www.st.com/; ComponentLink2Description: Datasheet; ComponentLink2URL: http://www.st.com/stonline/products/literature/ds/2384/m27c256b.pdf
footprint TSOP28 (Shrink Small Outline; 28 Leads; Body Width 11.8 mm; Pitch 0.55 mm)
3D model TSOP28 (Shrink Small Outline; 28 Leads; Body Width 11.8 mm; Pitch 0.55 mm)
pins: 1 VPP (power), 2 A12 (in), 3 A7 (in), 4 A6 (in), 5 A5 (in), 6 A4 (in), 7 A3 (in), 8 A2 (in), 9 A1 (in), 10 A0 (in), 11 Q0 (io), 12 Q1 (io), 13 Q2 (io), 14 GND (power), 15 Q3 (io), 16 Q4 (io), 17 Q5 (io), 18 Q6 (io), 19 Q7 (io), 20 ~{CE} (in), 21 A10 (in), 22 ~{OE} (in), 23 A11 (in), 24 A9 (in), 25 A8 (in), 26 A13 (in), 27 A14 (in), 28 VCC (power)

## M27C256B-60XN7
designator U?
256 Kbit (32Kb X 8) UV EPROM and OTP EPROM; Published: 24-Aug-2001; LatestRevisionDate: 6-Jun-2005; LatestRevisionNote: Stylized 3D Model Added.; DatasheetDocument: Jul-1998; PackageDocument: Jul-1998; PackageReference: TSOP28; Publisher: Altium Limited; ComponentLink1Description: Manufacturer Link; ComponentLink1URL: http://www.st.com/; ComponentLink2Description: Datasheet; ComponentLink2URL: http://www.st.com/stonline/products/literature/ds/2384/m27c256b.pdf
footprint TSOP28 (Shrink Small Outline; 28 Leads; Body Width 11.8 mm; Pitch 0.55 mm)
3D model TSOP28 (Shrink Small Outline; 28 Leads; Body Width 11.8 mm; Pitch 0.55 mm)
pins: 1 VPP (power), 2 A12 (in), 3 A7 (in), 4 A6 (in), 5 A5 (in), 6 A4 (in), 7 A3 (in), 8 A2 (in), 9 A1 (in), 10 A0 (in), 11 Q0 (io), 12 Q1 (io), 13 Q2 (io), 14 GND (power), 15 Q3 (io), 16 Q4 (io), 17 Q5 (io), 18 Q6 (io), 19 Q7 (io), 20 ~{CE} (in), 21 A10 (in), 22 ~{OE} (in), 23 A11 (in), 24 A9 (in), 25 A8 (in), 26 A13 (in), 27 A14 (in), 28 VCC (power)

## M27C256B-70B1
designator U?
256 Kbit (32Kb X 8) UV EPROM and OTP EPROM; Published: 24-Aug-2001; LatestRevisionDate: 6-Jun-2005; LatestRevisionNote: Stylized 3D Model Added.; DatasheetDocument: Jul-1998; PackageDocument: Jan-2003; PackageReference: PDIP28; Publisher: Altium Limited; ComponentLink1Description: Manufacturer Link; ComponentLink1URL: http://www.st.com/; ComponentLink2Description: Datasheet; ComponentLink2URL: http://www.st.com/stonline/products/literature/ds/2384/m27c256b.pdf
footprint PDIP28 (DIP; 28 Leads; Row Spacing 15.24 mm; Pitch 2.54 mm)
3D model FDIP28W (DIP; 28 Leads; Row Spacing 15.24 mm; Pitch 2.54 mm)
pins: 1 VPP (power), 2 A12 (in), 3 A7 (in), 4 A6 (in), 5 A5 (in), 6 A4 (in), 7 A3 (in), 8 A2 (in), 9 A1 (in), 10 A0 (in), 11 Q0 (io), 12 Q1 (io), 13 Q2 (io), 14 GND (power), 15 Q3 (io), 16 Q4 (io), 17 Q5 (io), 18 Q6 (io), 19 Q7 (io), 20 ~{CE} (in), 21 A10 (in), 22 ~{OE} (in), 23 A11 (in), 24 A9 (in), 25 A8 (in), 26 A13 (in), 27 A14 (in), 28 VCC (power)

## M27C256B-70B3
designator U?
256 Kbit (32Kb X 8) UV EPROM and OTP EPROM; Published: 24-Aug-2001; LatestRevisionDate: 6-Jun-2005; LatestRevisionNote: Stylized 3D Model Added.; DatasheetDocument: Jul-1998; PackageDocument: Jan-2003; PackageReference: PDIP28; Publisher: Altium Limited; ComponentLink1Description: Manufacturer Link; ComponentLink1URL: http://www.st.com/; ComponentLink2Description: Datasheet; ComponentLink2URL: http://www.st.com/stonline/products/literature/ds/2384/m27c256b.pdf
footprint PDIP28 (DIP; 28 Leads; Row Spacing 15.24 mm; Pitch 2.54 mm)
3D model FDIP28W (DIP; 28 Leads; Row Spacing 15.24 mm; Pitch 2.54 mm)
pins: 1 VPP (power), 2 A12 (in), 3 A7 (in), 4 A6 (in), 5 A5 (in), 6 A4 (in), 7 A3 (in), 8 A2 (in), 9 A1 (in), 10 A0 (in), 11 Q0 (io), 12 Q1 (io), 13 Q2 (io), 14 GND (power), 15 Q3 (io), 16 Q4 (io), 17 Q5 (io), 18 Q6 (io), 19 Q7 (io), 20 ~{CE} (in), 21 A10 (in), 22 ~{OE} (in), 23 A11 (in), 24 A9 (in), 25 A8 (in), 26 A13 (in), 27 A14 (in), 28 VCC (power)

## M27C256B-70B6
designator U?
256 Kbit (32Kb X 8) UV EPROM and OTP EPROM; Published: 24-Aug-2001; LatestRevisionDate: 6-Jun-2005; LatestRevisionNote: Stylized 3D Model Added.; DatasheetDocument: Jul-1998; PackageDocument: Jan-2003; PackageReference: PDIP28; Publisher: Altium Limited; ComponentLink1Description: Manufacturer Link; ComponentLink1URL: http://www.st.com/; ComponentLink2Description: Datasheet; ComponentLink2URL: http://www.st.com/stonline/products/literature/ds/2384/m27c256b.pdf
footprint PDIP28 (DIP; 28 Leads; Row Spacing 15.24 mm; Pitch 2.54 mm)
3D model FDIP28W (DIP; 28 Leads; Row Spacing 15.24 mm; Pitch 2.54 mm)
pins: 1 VPP (power), 2 A12 (in), 3 A7 (in), 4 A6 (in), 5 A5 (in), 6 A4 (in), 7 A3 (in), 8 A2 (in), 9 A1 (in), 10 A0 (in), 11 Q0 (io), 12 Q1 (io), 13 Q2 (io), 14 GND (power), 15 Q3 (io), 16 Q4 (io), 17 Q5 (io), 18 Q6 (io), 19 Q7 (io), 20 ~{CE} (in), 21 A10 (in), 22 ~{OE} (in), 23 A11 (in), 24 A9 (in), 25 A8 (in), 26 A13 (in), 27 A14 (in), 28 VCC (power)

## M27C256B-70B7
designator U?
256 Kbit (32Kb X 8) UV EPROM and OTP EPROM; Published: 24-Aug-2001; LatestRevisionDate: 6-Jun-2005; LatestRevisionNote: Stylized 3D Model Added.; DatasheetDocument: Jul-1998; PackageDocument: Jan-2003; PackageReference: PDIP28; Publisher: Altium Limited; ComponentLink1Description: Manufacturer Link; ComponentLink1URL: http://www.st.com/; ComponentLink2Description: Datasheet; ComponentLink2URL: http://www.st.com/stonline/products/literature/ds/2384/m27c256b.pdf
footprint PDIP28 (DIP; 28 Leads; Row Spacing 15.24 mm; Pitch 2.54 mm)
3D model FDIP28W (DIP; 28 Leads; Row Spacing 15.24 mm; Pitch 2.54 mm)
pins: 1 VPP (power), 2 A12 (in), 3 A7 (in), 4 A6 (in), 5 A5 (in), 6 A4 (in), 7 A3 (in), 8 A2 (in), 9 A1 (in), 10 A0 (in), 11 Q0 (io), 12 Q1 (io), 13 Q2 (io), 14 GND (power), 15 Q3 (io), 16 Q4 (io), 17 Q5 (io), 18 Q6 (io), 19 Q7 (io), 20 ~{CE} (in), 21 A10 (in), 22 ~{OE} (in), 23 A11 (in), 24 A9 (in), 25 A8 (in), 26 A13 (in), 27 A14 (in), 28 VCC (power)

## M27C256B-70C1
designator U?
256 Kbit (32Kb X 8) UV EPROM and OTP EPROM; Note: Do Not Use (DU) pin numbers 1 and 17.; Published: 24-Aug-2001; LatestRevisionDate: 6-Jun-2005; LatestRevisionNote: Stylized 3D Model Added.; DatasheetDocument: Jul-1998; PackageDocument: Jun-1998; PackageReference: PLCC32; Publisher: Altium Limited; Code_JEDEC: MS-016-AE; Code_IPC: PLCC/R-32; ComponentLink1Description: Manufacturer Link; ComponentLink1URL: http://www.st.com/; ComponentLink2Description: Datasheet; ComponentLink2URL: http://www.st.com/stonline/products/literature/ds/2384/m27c256b.pdf
footprint PLCC32 (Leaded Chip Carrier; 32 Leads; Body 11.4 x 14 mm)
3D model M27C256B-PLCC32 (Leaded Chip Carrier; 32 Leads; Body 11.4 x 14 mm)
pins: 1 DU, 2 VPP (power), 3 A12 (in), 4 A7 (in), 5 A6 (in), 6 A5 (in), 7 A4 (in), 8 A3 (in), 9 A2 (in), 10 A1 (in), 11 A0 (in), 12 NC, 13 Q0 (io), 14 Q1 (io), 15 Q2 (io), 16 GND (power), 17 DU, 18 Q3 (io), 19 Q4 (io), 20 Q5 (io), 21 Q6 (io), 22 Q7 (io), 23 ~{CE} (in), 24 A10 (in), 25 ~{OE} (in), 26 NC, 27 A11 (in), 28 A9 (in), 29 A8 (in), 30 A13 (in), 31 A14 (in), 32 VCC (power)